# EAGLE library part EPF10K130V-BGA600 (library altera)
EPF10K130 FLEX 10K family
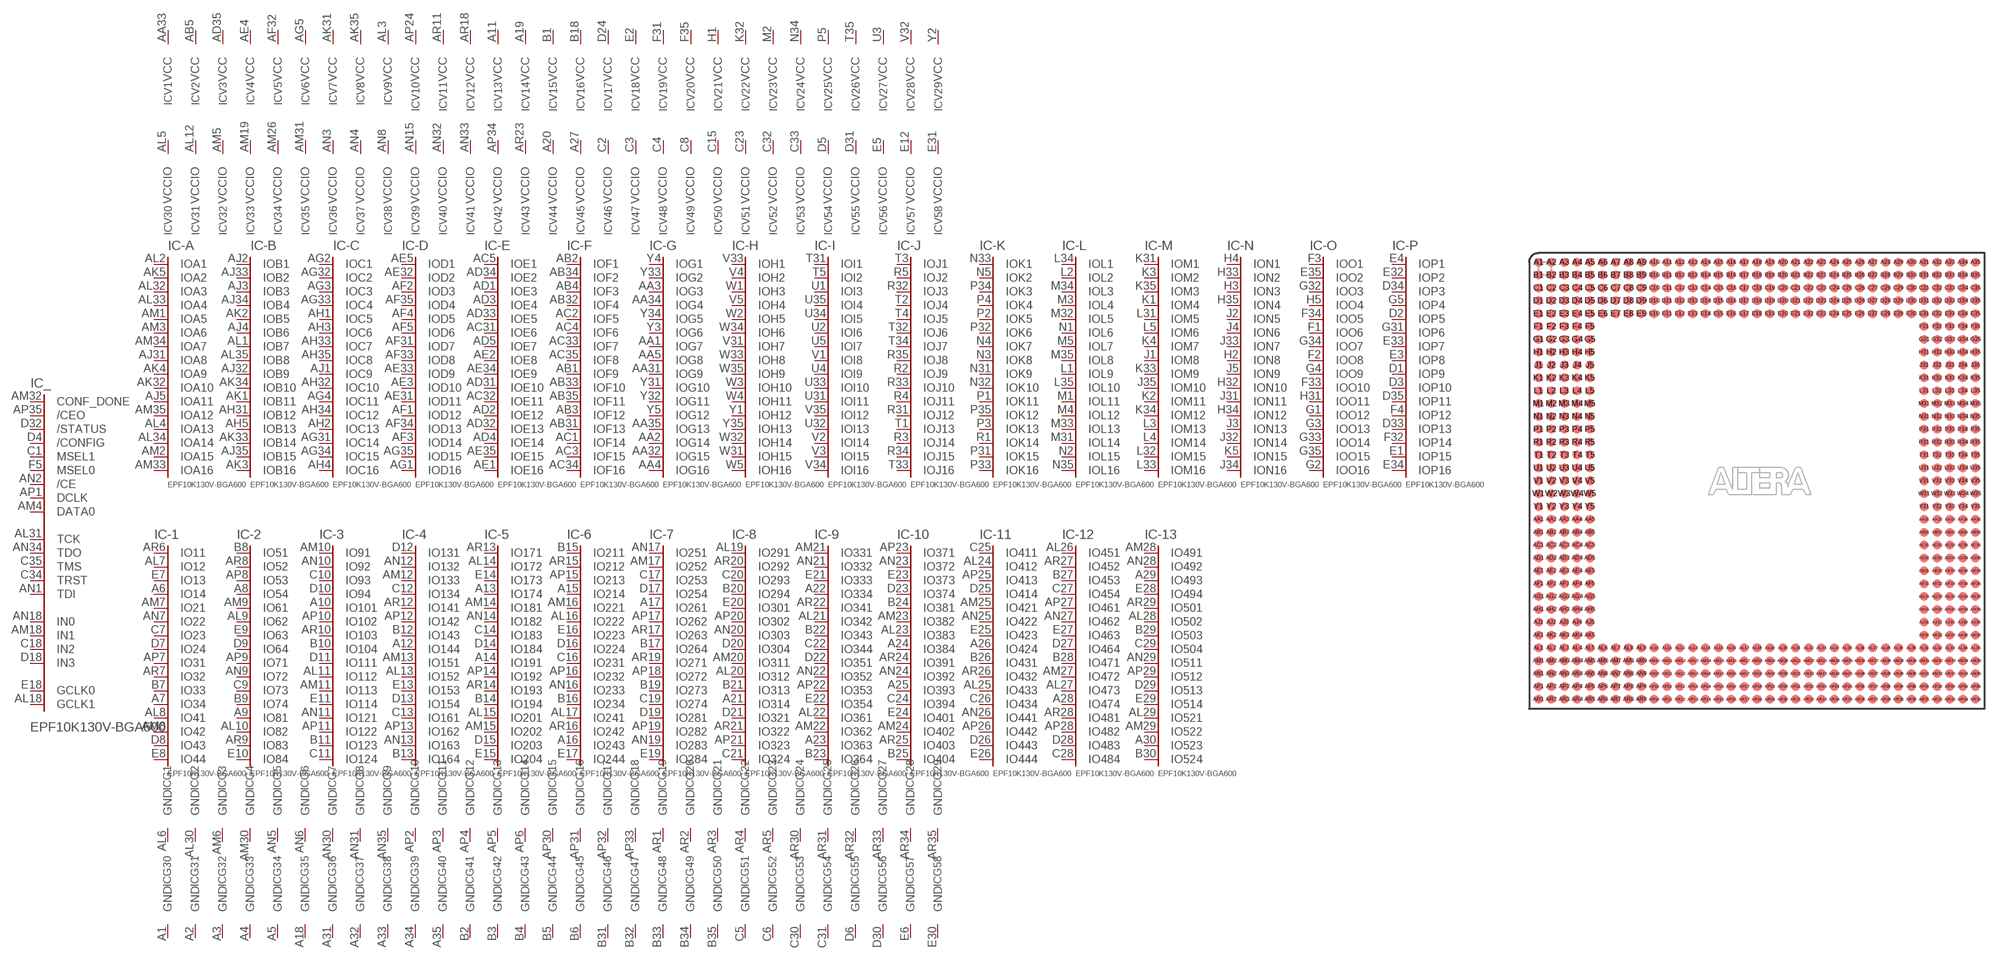
[diagram p37: symbol with the pads of BGA600; footprint BGA600]

Designator prefix IC; gates _=130V600C -A=A16 -B=B16 -C=C16 -D=D16 -E=E16 -F=F16 -G=G16 -H=H16 -I=I16 -J=J16 -K=K16 -L=L16 -M=M16 -N=N16 -O=O16 -P=P16 -1=IO44 -2=IO84 -3=IO124 -4=IO164 -5=IO204 -6=IO244 -7=IO284 -8=IO324 -9=IO364 -10=IO404 -11=IO444 -12=IO484 -13=IO524 G1=GND G2=GND G3=GND G4=GND G5=GND G6=GND G7=GND G8=GND G9=GND G10=GND G11=GND G12=GND G13=GND G14=GND G15=GND G16=GND G17=GND G18=GND G19=GND G20=GND G21=GND G22=GND G23=GND G24=GND G25=GND G26=GND G27=GND G28=GND G29=GND G30=GND G31=GND G32=GND G33=GND G34=GND G35=GND G36=GND G37=GND G38=GND G39=GND G40=GND G41=GND G42=GND G43=GND G44=GND G45=GND G46=GND G47=GND G48=GND G49=GND G50=GND G51=GND G52=GND G53=GND G54=GND G55=GND G56=GND G57=GND G58=GND V1=VCCINT V2=VCCINT V3=VCCINT V4=VCCINT V5=VCCINT V6=VCCINT V7=VCCINT V8=VCCINT V9=VCCINT V10=VCCINT V11=VCCINT V12=VCCINT V13=VCCINT V14=VCCINT V15=VCCINT V16=VCCINT V17=VCCINT V18=VCCINT V19=VCCINT V20=VCCINT V21=VCCINT V22=VCCINT V23=VCCINT V24=VCCINT V25=VCCINT V26=VCCINT V27=VCCINT V28=VCCINT V29=VCCINT V30=VCCIO V31=VCCIO V32=VCCIO V33=VCCIO V34=VCCIO V35=VCCIO V36=VCCIO V37=VCCIO V38=VCCIO V39=VCCIO V40=VCCIO V41=VCCIO V42=VCCIO V43=VCCIO V44=VCCIO V45=VCCIO V46=VCCIO V47=VCCIO V48=VCCIO V49=VCCIO V50=VCCIO V51=VCCIO V52=VCCIO V53=VCCIO V54=VCCIO V55=VCCIO V56=VCCIO V57=VCCIO V58=VCCIO

## EPF10K130V-BGA600 (OC_FARNELL: unknown; OC_NEWARK: unknown)  [BGA600]
A1  G30:GND  pwr
A2  G31:GND  pwr
A3  G32:GND  pwr
A4  G33:GND  pwr
A5  G34:GND  pwr
A6  -1:IO14
A7  -1:IO34
A8  -2:IO54
A9  -2:IO81
A10  -3:IO101
A11  V13:VCC  pwr
A12  -4:IO144
A13  -5:IO174
A14  -5:IO191
A15  -6:IO214
A16  -6:IO243
A17  -7:IO261
A18  G35:GND  pwr
A19  V14:VCC  pwr
A20  V44:VCCIO  pwr
A21  -8:IO314
A22  -9:IO334
A23  -9:IO363
A24  -10:IO384
A25  -10:IO393
A26  -11:IO424
A27  V45:VCCIO  pwr
A28  -12:IO474
A29  -13:IO493
A30  -13:IO523
A31  G36:GND  pwr
A32  G37:GND  pwr
A33  G38:GND  pwr
A34  G39:GND  pwr
A35  G40:GND  pwr
AA1  -G:IOG7
AA2  -G:IOG14
AA3  -G:IOG3
AA4  -G:IOG16
AA5  -G:IOG8
AA31  -G:IOG9
AA32  -G:IOG15
AA33  V1:VCC  pwr
AA34  -G:IOG4
AA35  -G:IOG13
AB1  -F:IOF9
AB2  -F:IOF1
AB3  -F:IOF12
AB4  -F:IOF3
AB5  V2:VCC  pwr
AB31  -F:IOF13
AB32  -F:IOF4
AB33  -F:IOF10
AB34  -F:IOF2
AB35  -F:IOF11
AC1  -F:IOF14
AC2  -F:IOF5
AC3  -F:IOF15
AC4  -F:IOF6
AC5  -E:IOE1
AC31  -E:IOE6
AC32  -E:IOE11
AC33  -F:IOF7
AC34  -F:IOF16
AC35  -F:IOF8
AD1  -E:IOE3
AD2  -E:IOE12
AD3  -E:IOE4
AD4  -E:IOE14
AD5  -E:IOE7
AD31  -E:IOE10
AD32  -E:IOE13
AD33  -E:IOE5
AD34  -E:IOE2
AD35  V3:VCC  pwr
AE1  -E:IOE16
AE2  -E:IOE8
AE3  -D:IOD10
AE4  V4:VCC  pwr
AE5  -D:IOD1
AE31  -D:IOD11
AE32  -D:IOD2
AE33  -D:IOD9
AE34  -E:IOE9
AE35  -E:IOE15
AF1  -D:IOD12
AF2  -D:IOD3
AF3  -D:IOD14
AF4  -D:IOD5
AF5  -D:IOD6
AF31  -D:IOD7
AF32  V5:VCC  pwr
AF33  -D:IOD8
AF34  -D:IOD13
AF35  -D:IOD4
AG1  -D:IOD16
AG2  -C:IOC1
AG3  -C:IOC3
AG4  -C:IOC11
AG5  V6:VCC  pwr
AG31  -C:IOC14
AG32  -C:IOC2
AG33  -C:IOC4
AG34  -C:IOC15
AG35  -D:IOD15
AH1  -C:IOC5
AH2  -C:IOC13
AH3  -C:IOC6
AH4  -C:IOC16
AH5  -B:IOB13
AH31  -B:IOB12
AH32  -C:IOC10
AH33  -C:IOC7
AH34  -C:IOC12
AH35  -C:IOC8
AJ1  -C:IOC9
AJ2  -B:IOB1
AJ3  -B:IOB3
AJ4  -B:IOB6
AJ5  -A:IOA11
AJ31  -A:IOA8
AJ32  -B:IOB9
AJ33  -B:IOB2
AJ34  -B:IOB4
AJ35  -B:IOB15
AK1  -B:IOB11
AK2  -B:IOB5
AK3  -B:IOB16
AK4  -A:IOA9
AK5  -A:IOA2
AK31  V7:VCC  pwr
AK32  -A:IOA10
AK33  -B:IOB14
AK34  -B:IOB10
AK35  V8:VCC  pwr
AL1  -B:IOB7
AL2  -A:IOA1
AL3  V9:VCC  pwr
AL4  -A:IOA13
AL5  V30:VCCIO  pwr
AL6  G1:GND  pwr
AL7  -1:IO12
AL8  -1:IO41
AL9  -2:IO62
AL10  -2:IO82
AL11  -3:IO112
AL12  V31:VCCIO  pwr
AL13  -4:IO152
AL14  -5:IO172
AL15  -5:IO201
AL16  -6:IO222
AL17  -6:IO241
AL18  _:GCLK1  in
AL19  -8:IO291
AL20  -8:IO312
AL21  -9:IO342
AL22  -9:IO361
AL23  -10:IO383
AL24  -11:IO412
AL25  -11:IO433
AL26  -12:IO451
AL27  -12:IO473
AL28  -13:IO502
AL29  -13:IO521
AL30  G2:GND  pwr
AL31  _:TCK
AL32  -A:IOA3
AL33  -A:IOA4
AL34  -A:IOA14
AL35  -B:IOB8
AM1  -A:IOA5
AM2  -A:IOA15
AM3  -A:IOA6
AM4  _:DATA0  in
AM5  V32:VCCIO  pwr
AM6  G3:GND  pwr
AM7  -1:IO21
AM8  -1:IO42
AM9  -2:IO61
AM10  -3:IO91
AM11  -3:IO113
AM12  -4:IO133
AM13  -4:IO151
AM14  -5:IO181
AM15  -5:IO202
AM16  -6:IO221
AM17  -7:IO252
AM18  _:IN1  in
AM19  V33:VCCIO  pwr
AM20  -8:IO311
AM21  -9:IO331
AM22  -9:IO362
AM23  -10:IO382
AM24  -10:IO402
AM25  -11:IO421
AM26  V34:VCCIO  pwr
AM27  -12:IO472
AM28  -13:IO491
AM29  -13:IO522
AM30  G4:GND  pwr
AM31  V35:VCCIO  pwr
AM32  _:CONF_DONE  in
AM33  -A:IOA16
AM34  -A:IOA7
AM35  -A:IOA12
AN1  _:TDI
AN2  _:/CE  in
AN3  V36:VCCIO  pwr
AN4  V37:VCCIO  pwr
AN5  G5:GND  pwr
AN6  G6:GND  pwr
AN7  -1:IO22
AN8  V38:VCCIO  pwr
AN9  -2:IO72
AN10  -3:IO92
AN11  -3:IO121
AN12  -4:IO132
AN13  -4:IO163
AN14  -5:IO182
AN15  V39:VCCIO  pwr
AN16  -6:IO233
AN17  -7:IO251
AN18  _:IN0  in
AN19  -7:IO283
AN20  -8:IO303
AN21  -9:IO332
AN22  -9:IO352
AN23  -10:IO372
AN24  -10:IO392
AN25  -11:IO422
AN26  -11:IO441
AN27  -12:IO462
AN28  -13:IO492
AN29  -13:IO511
AN30  G7:GND  pwr
AN31  G8:GND  pwr
AN32  V40:VCCIO  pwr
AN33  V41:VCCIO  pwr
AN34  _:TDO
AN35  G9:GND  pwr
AP1  _:DCLK  in
AP2  G10:GND  pwr
AP3  G11:GND  pwr
AP4  G12:GND  pwr
AP5  G13:GND  pwr
AP6  G14:GND  pwr
AP7  -1:IO31
AP8  -2:IO53
AP9  -2:IO71
AP10  -3:IO102
AP11  -3:IO122
AP12  -4:IO142
AP13  -4:IO162
AP14  -5:IO192
AP15  -6:IO213
AP16  -6:IO232
AP17  -7:IO262
AP18  -7:IO272
AP19  -7:IO282
AP20  -8:IO302
AP21  -8:IO323
AP22  -9:IO353
AP23  -10:IO371
AP24  V10:VCC  pwr
AP25  -11:IO413
AP26  -11:IO442
AP27  -12:IO461
AP28  -12:IO482
AP29  -13:IO512
AP30  G15:GND  pwr
AP31  G16:GND  pwr
AP32  G17:GND  pwr
AP33  G18:GND  pwr
AP34  V42:VCCIO  pwr
AP35  _:/CEO  in
AR1  G19:GND  pwr
AR2  G20:GND  pwr
AR3  G21:GND  pwr
AR4  G22:GND  pwr
AR5  G23:GND  pwr
AR6  -1:IO11
AR7  -1:IO32
AR8  -2:IO52
AR9  -2:IO83
AR10  -3:IO103
AR11  V11:VCC  pwr
AR12  -4:IO141
AR13  -5:IO171
AR14  -5:IO193
AR15  -6:IO212
AR16  -6:IO242
AR17  -7:IO263
AR18  V12:VCC  pwr
AR19  -7:IO271
AR20  -8:IO292
AR21  -8:IO322
AR22  -9:IO341
AR23  V43:VCCIO  pwr
AR24  -10:IO391
AR25  -10:IO403
AR26  -11:IO432
AR27  -12:IO452
AR28  -12:IO481
AR29  -13:IO501
AR30  G24:GND  pwr
AR31  G25:GND  pwr
AR32  G26:GND  pwr
AR33  G27:GND  pwr
AR34  G28:GND  pwr
AR35  G29:GND  pwr
B1  V15:VCC  pwr
B2  G41:GND  pwr
B3  G42:GND  pwr
B4  G43:GND  pwr
B5  G44:GND  pwr
B6  G45:GND  pwr
B7  -1:IO33
B8  -2:IO51
B9  -2:IO74
B10  -3:IO104
B11  -3:IO123
B12  -4:IO143
B13  -4:IO164
B14  -5:IO194
B15  -6:IO211
B16  -6:IO234
B17  -7:IO264
B18  V16:VCC  pwr
B19  -7:IO273
B20  -8:IO294
B21  -8:IO313
B22  -9:IO343
B23  -9:IO364
B24  -10:IO381
B25  -10:IO404
B26  -11:IO431
B27  -12:IO453
B28  -12:IO471
B29  -13:IO503
B30  -13:IO524
B31  G46:GND  pwr
B32  G47:GND  pwr
B33  G48:GND  pwr
B34  G49:GND  pwr
B35  G50:GND  pwr
C1  _:MSEL1  in
C2  V46:VCCIO  pwr
C3  V47:VCCIO  pwr
C4  V48:VCCIO  pwr
C5  G51:GND  pwr
C6  G52:GND  pwr
C7  -1:IO23
C8  V49:VCCIO  pwr
C9  -2:IO73
C10  -3:IO93
C11  -3:IO124
C12  -4:IO134
C13  -4:IO161
C14  -5:IO183
C15  V50:VCCIO  pwr
C16  -6:IO231
C17  -7:IO253
C18  _:IN2  in
C19  -7:IO274
C20  -8:IO293
C21  -8:IO324
C22  -9:IO344
C23  V51:VCCIO  pwr
C24  -10:IO394
C25  -11:IO411
C26  -11:IO434
C27  -12:IO454
C28  -12:IO484
C29  -13:IO504
C30  G53:GND  pwr
C31  G54:GND  pwr
C32  V52:VCCIO  pwr
C33  V53:VCCIO  pwr
C34  _:TRST
C35  _:TMS
D1  -P:IOP9
D2  -P:IOP5
D3  -P:IOP10
D4  _:/CONFIG  in
D5  V54:VCCIO  pwr
D6  G55:GND  pwr
D7  -1:IO24
D8  -1:IO43
D9  -2:IO64
D10  -3:IO94
D11  -3:IO111
D12  -4:IO131
D13  -4:IO154
D14  -5:IO184
D15  -5:IO203
D16  -6:IO224
D17  -7:IO254
D18  _:IN3  in
D19  -7:IO281
D20  -8:IO304
D21  -8:IO321
D22  -9:IO351
D23  -10:IO374
D24  V17:VCC  pwr
D25  -11:IO414
D26  -11:IO443
D27  -12:IO464
D28  -12:IO483
D29  -13:IO513
D30  G56:GND  pwr
D31  V55:VCCIO  pwr
D32  _:/STATUS  in
D33  -P:IOP13
D34  -P:IOP3
D35  -P:IOP11
E1  -P:IOP15
E2  V18:VCC  pwr
E3  -P:IOP8
E4  -P:IOP1
E5  V56:VCCIO  pwr
E6  G57:GND  pwr
E7  -1:IO13
E8  -1:IO44
E9  -2:IO63
E10  -2:IO84
E11  -3:IO114
E12  V57:VCCIO  pwr
E13  -4:IO153
E14  -5:IO173
E15  -5:IO204
E16  -6:IO223
E17  -6:IO244
E18  _:GCLK0  in
E19  -7:IO284
E20  -8:IO301
E21  -9:IO333
E22  -9:IO354
E23  -10:IO373
E24  -10:IO401
E25  -11:IO423
E26  -11:IO444
E27  -12:IO463
E28  -13:IO494
E29  -13:IO514
E30  G58:GND  pwr
E31  V58:VCCIO  pwr
E32  -P:IOP2
E33  -P:IOP7
E34  -P:IOP16
E35  -O:IOO2
F1  -O:IOO6
F2  -O:IOO8
F3  -O:IOO1
F4  -P:IOP12
F5  _:MSEL0  in
F31  V19:VCC  pwr
F32  -P:IOP14
F33  -O:IOO10
F34  -O:IOO5
F35  V20:VCC  pwr
G1  -O:IOO12
G2  -O:IOO16
G3  -O:IOO13
G4  -O:IOO9
G5  -P:IOP4
G31  -P:IOP6
G32  -O:IOO3
G33  -O:IOO14
G34  -O:IOO7
G35  -O:IOO15
H1  V21:VCC  pwr
H2  -N:ION8
H3  -N:ION3
H4  -N:ION1
H5  -O:IOO4
H31  -O:IOO11
H32  -N:ION10
H33  -N:ION2
H34  -N:ION12
H35  -N:ION4
J1  -M:IOM8
J2  -N:ION5
J3  -N:ION13
J4  -N:ION6
J5  -N:ION9
J31  -N:ION11
J32  -N:ION14
J33  -N:ION7
J34  -N:ION16
J35  -M:IOM10
K1  -M:IOM4
K2  -M:IOM11
K3  -M:IOM2
K4  -M:IOM7
K5  -N:ION15
K31  -M:IOM1
K32  V22:VCC  pwr
K33  -M:IOM9
K34  -M:IOM12
K35  -M:IOM3
L1  -L:IOL9
L2  -L:IOL2
L3  -M:IOM13
L4  -M:IOM14
L5  -M:IOM6
L31  -M:IOM5
L32  -M:IOM15
L33  -M:IOM16
L34  -L:IOL1
L35  -L:IOL10
M1  -L:IOL11
M2  V23:VCC  pwr
M3  -L:IOL4
M4  -L:IOL12
M5  -L:IOL7
M31  -L:IOL14
M32  -L:IOL5
M33  -L:IOL13
M34  -L:IOL3
M35  -L:IOL8
N1  -L:IOL6
N2  -L:IOL15
N3  -K:IOK8
N4  -K:IOK7
N5  -K:IOK2
N31  -K:IOK9
N32  -K:IOK10
N33  -K:IOK1
N34  V24:VCC  pwr
N35  -L:IOL16
P1  -K:IOK11
P2  -K:IOK5
P3  -K:IOK13
P4  -K:IOK4
P5  V25:VCC  pwr
P31  -K:IOK15
P32  -K:IOK6
P33  -K:IOK16
P34  -K:IOK3
P35  -K:IOK12
R1  -K:IOK14
R2  -J:IOJ9
R3  -J:IOJ14
R4  -J:IOJ11
R5  -J:IOJ2
R31  -J:IOJ12
R32  -J:IOJ3
R33  -J:IOJ10
R34  -J:IOJ15
R35  -J:IOJ8
T1  -J:IOJ13
T2  -J:IOJ4
T3  -J:IOJ1
T4  -J:IOJ5
T5  -I:IOI2
T31  -I:IOI1
T32  -J:IOJ6
T33  -J:IOJ16
T34  -J:IOJ7
T35  V26:VCC  pwr
U1  -I:IOI3
U2  -I:IOI6
U3  V27:VCC  pwr
U4  -I:IOI9
U5  -I:IOI7
U31  -I:IOI11
U32  -I:IOI13
U33  -I:IOI10
U34  -I:IOI5
U35  -I:IOI4
V1  -I:IOI8
V2  -I:IOI14
V3  -I:IOI15
V4  -H:IOH2
V5  -H:IOH4
V31  -H:IOH7
V32  V28:VCC  pwr
V33  -H:IOH1
V34  -I:IOI16
V35  -I:IOI12
W1  -H:IOH3
W2  -H:IOH5
W3  -H:IOH10
W4  -H:IOH11
W5  -H:IOH16
W31  -H:IOH15
W32  -H:IOH14
W33  -H:IOH8
W34  -H:IOH6
W35  -H:IOH9
Y1  -H:IOH12
Y2  V29:VCC  pwr
Y3  -G:IOG6
Y4  -G:IOG1
Y5  -G:IOG12
Y31  -G:IOG10
Y32  -G:IOG11
Y33  -G:IOG2
Y34  -G:IOG5
Y35  -H:IOH13

## Footprint BGA600 (pad centres in mm)
Ball Grid Array
smd 0.9 x 0.9: A1 -21.59,21.59; A2 -20.32,21.59; A3 -19.05,21.59; A4 -17.78,21.59; A5 -16.51,21.59; A6 -15.24,21.59; A7 -13.97,21.59; A8 -12.7,21.59; A9 -11.43,21.59; A10 -10.16,21.59; A11 -8.89,21.59; A12 -7.62,21.59; A13 -6.35,21.59; A14 -5.08,21.59; A15 -3.81,21.59; A16 -2.54,21.59; A17 -1.27,21.59; A18 0,21.59; A19 1.27,21.59; A20 2.54,21.59; A21 3.81,21.59; A22 5.08,21.59; A23 6.35,21.59; A24 7.62,21.59; A25 8.89,21.59; A26 10.16,21.59; A27 11.43,21.59; A28 12.7,21.59; A29 13.97,21.59; A30 15.24,21.59; A31 16.51,21.59; A32 17.78,21.59; A33 19.05,21.59; A34 20.32,21.59; A35 21.59,21.59; AA1 -21.59,-3.81; AA2 -20.32,-3.81; AA3 -19.05,-3.81; AA4 -17.78,-3.81; AA5 -16.51,-3.81; AA31 16.51,-3.81; AA32 17.78,-3.81; AA33 19.05,-3.81; AA34 20.32,-3.81; AA35 21.59,-3.81; AB1 -21.59,-5.08; AB2 -20.32,-5.08; AB3 -19.05,-5.08; AB4 -17.78,-5.08; AB5 -16.51,-5.08; AB31 16.51,-5.08; AB32 17.78,-5.08; AB33 19.05,-5.08; AB34 20.32,-5.08; AB35 21.59,-5.08; AC1 -21.59,-6.35; AC2 -20.32,-6.35; AC3 -19.05,-6.35; AC4 -17.78,-6.35; AC5 -16.51,-6.35; AC31 16.51,-6.35; AC32 17.78,-6.35; AC33 19.05,-6.35; AC34 20.32,-6.35; AC35 21.59,-6.35; AD1 -21.59,-7.62; AD2 -20.32,-7.62; AD3 -19.05,-7.62; AD4 -17.78,-7.62; AD5 -16.51,-7.62; AD31 16.51,-7.62; AD32 17.78,-7.62; AD33 19.05,-7.62; AD34 20.32,-7.62; AD35 21.59,-7.62; AE1 -21.59,-8.89; AE2 -20.32,-8.89; AE3 -19.05,-8.89; AE4 -17.78,-8.89; AE5 -16.51,-8.89; AE31 16.51,-8.89; AE32 17.78,-8.89; AE33 19.05,-8.89; AE34 20.32,-8.89; AE35 21.59,-8.89; AF1 -21.59,-10.16; AF2 -20.32,-10.16; AF3 -19.05,-10.16; AF4 -17.78,-10.16; AF5 -16.51,-10.16; AF31 16.51,-10.16; AF32 17.78,-10.16; AF33 19.05,-10.16; AF34 20.32,-10.16; AF35 21.59,-10.16; AG1 -21.59,-11.43; AG2 -20.32,-11.43; AG3 -19.05,-11.43; AG4 -17.78,-11.43; AG5 -16.51,-11.43; AG31 16.51,-11.43; AG32 17.78,-11.43; AG33 19.05,-11.43; AG34 20.32,-11.43; AG35 21.59,-11.43; AH1 -21.59,-12.7; AH2 -20.32,-12.7; AH3 -19.05,-12.7; AH4 -17.78,-12.7; AH5 -16.51,-12.7; AH31 16.51,-12.7; AH32 17.78,-12.7; AH33 19.05,-12.7; AH34 20.32,-12.7; AH35 21.59,-12.7; AJ1 -21.59,-13.97; AJ2 -20.32,-13.97; AJ3 -19.05,-13.97; AJ4 -17.78,-13.97; AJ5 -16.51,-13.97; AJ31 16.51,-13.97; AJ32 17.78,-13.97; AJ33 19.05,-13.97; AJ34 20.32,-13.97; AJ35 21.59,-13.97; AK1 -21.59,-15.24; AK2 -20.32,-15.24; AK3 -19.05,-15.24; AK4 -17.78,-15.24; AK5 -16.51,-15.24; AK31 16.51,-15.24; AK32 17.78,-15.24; AK33 19.05,-15.24; AK34 20.32,-15.24; AK35 21.59,-15.24; AL1 -21.59,-16.51; AL2 -20.32,-16.51; AL3 -19.05,-16.51; AL4 -17.78,-16.51; AL5 -16.51,-16.51; AL6 -15.24,-16.51; AL7 -13.97,-16.51; AL8 -12.7,-16.51; AL9 -11.43,-16.51; AL10 -10.16,-16.51; AL11 -8.89,-16.51; AL12 -7.62,-16.51; AL13 -6.35,-16.51; AL14 -5.08,-16.51; AL15 -3.81,-16.51; AL16 -2.54,-16.51; AL17 -1.27,-16.51; AL18 0,-16.51; AL19 1.27,-16.51; AL20 2.54,-16.51; AL21 3.81,-16.51; AL22 5.08,-16.51; AL23 6.35,-16.51; AL24 7.62,-16.51; AL25 8.89,-16.51; AL26 10.16,-16.51; AL27 11.43,-16.51; AL28 12.7,-16.51; AL29 13.97,-16.51; AL30 15.24,-16.51; AL31 16.51,-16.51; AL32 17.78,-16.51; AL33 19.05,-16.51; AL34 20.32,-16.51; AL35 21.59,-16.51; AM1 -21.59,-17.78; AM2 -20.32,-17.78; AM3 -19.05,-17.78; AM4 -17.78,-17.78; AM5 -16.51,-17.78; AM6 -15.24,-17.78; AM7 -13.97,-17.78; AM8 -12.7,-17.78; AM9 -11.43,-17.78; AM10 -10.16,-17.78; AM11 -8.89,-17.78; AM12 -7.62,-17.78; AM13 -6.35,-17.78; AM14 -5.08,-17.78; AM15 -3.81,-17.78; AM16 -2.54,-17.78; AM17 -1.27,-17.78; AM18 0,-17.78; AM19 1.27,-17.78; AM20 2.54,-17.78; AM21 3.81,-17.78; AM22 5.08,-17.78; AM23 6.35,-17.78; AM24 7.62,-17.78; AM25 8.89,-17.78; AM26 10.16,-17.78; AM27 11.43,-17.78; AM28 12.7,-17.78; AM29 13.97,-17.78; AM30 15.24,-17.78; AM31 16.51,-17.78; AM32 17.78,-17.78; AM33 19.05,-17.78; AM34 20.32,-17.78; AM35 21.59,-17.78; AN1 -21.59,-19.05; AN2 -20.32,-19.05; AN3 -19.05,-19.05; AN4 -17.78,-19.05; AN5 -16.51,-19.05; AN6 -15.24,-19.05; AN7 -13.97,-19.05; AN8 -12.7,-19.05; AN9 -11.43,-19.05; AN10 -10.16,-19.05; AN11 -8.89,-19.05; AN12 -7.62,-19.05; AN13 -6.35,-19.05; AN14 -5.08,-19.05; AN15 -3.81,-19.05; AN16 -2.54,-19.05; AN17 -1.27,-19.05; AN18 0,-19.05; AN19 1.27,-19.05; AN20 2.54,-19.05; AN21 3.81,-19.05; AN22 5.08,-19.05; AN23 6.35,-19.05; AN24 7.62,-19.05; AN25 8.89,-19.05; AN26 10.16,-19.05; AN27 11.43,-19.05; AN28 12.7,-19.05; AN29 13.97,-19.05; AN30 15.24,-19.05; AN31 16.51,-19.05; AN32 17.78,-19.05; AN33 19.05,-19.05; AN34 20.32,-19.05; AN35 21.59,-19.05; AP1 -21.59,-20.32; AP2 -20.32,-20.32; AP3 -19.05,-20.32; AP4 -17.78,-20.32; AP5 -16.51,-20.32; AP6 -15.24,-20.32; AP7 -13.97,-20.32; AP8 -12.7,-20.32; AP9 -11.43,-20.32; AP10 -10.16,-20.32; AP11 -8.89,-20.32; AP12 -7.62,-20.32; AP13 -6.35,-20.32; AP14 -5.08,-20.32; AP15 -3.81,-20.32; AP16 -2.54,-20.32; AP17 -1.27,-20.32; AP18 0,-20.32; AP19 1.27,-20.32; AP20 2.54,-20.32; AP21 3.81,-20.32; AP22 5.08,-20.32; AP23 6.35,-20.32; AP24 7.62,-20.32; AP25 8.89,-20.32; AP26 10.16,-20.32; AP27 11.43,-20.32; AP28 12.7,-20.32; AP29 13.97,-20.32; AP30 15.24,-20.32; AP31 16.51,-20.32; AP32 17.78,-20.32; AP33 19.05,-20.32; AP34 20.32,-20.32; AP35 21.59,-20.32; AR1 -21.59,-21.59; AR2 -20.32,-21.59; AR3 -19.05,-21.59; AR4 -17.78,-21.59; AR5 -16.51,-21.59; AR6 -15.24,-21.59; AR7 -13.97,-21.59; AR8 -12.7,-21.59; AR9 -11.43,-21.59; AR10 -10.16,-21.59; AR11 -8.89,-21.59; AR12 -7.62,-21.59; AR13 -6.35,-21.59; AR14 -5.08,-21.59; AR15 -3.81,-21.59; AR16 -2.54,-21.59; AR17 -1.27,-21.59; AR18 0,-21.59; AR19 1.27,-21.59; AR20 2.54,-21.59; AR21 3.81,-21.59; AR22 5.08,-21.59; AR23 6.35,-21.59; AR24 7.62,-21.59; AR25 8.89,-21.59; AR26 10.16,-21.59; AR27 11.43,-21.59; AR28 12.7,-21.59; AR29 13.97,-21.59; AR30 15.24,-21.59; AR31 16.51,-21.59; AR32 17.78,-21.59; AR33 19.05,-21.59; AR34 20.32,-21.59; AR35 21.59,-21.59; B1 -21.59,20.32; B2 -20.32,20.32; B3 -19.05,20.32; B4 -17.78,20.32; B5 -16.51,20.32; B6 -15.24,20.32; B7 -13.97,20.32; B8 -12.7,20.32; B9 -11.43,20.32; B10 -10.16,20.32; B11 -8.89,20.32; B12 -7.62,20.32; B13 -6.35,20.32; B14 -5.08,20.32; B15 -3.81,20.32; B16 -2.54,20.32; B17 -1.27,20.32; B18 0,20.32; B19 1.27,20.32; B20 2.54,20.32; B21 3.81,20.32; B22 5.08,20.32; B23 6.35,20.32; B24 7.62,20.32; B25 8.89,20.32; B26 10.16,20.32; B27 11.43,20.32; B28 12.7,20.32; B29 13.97,20.32; B30 15.24,20.32; B31 16.51,20.32; B32 17.78,20.32; B33 19.05,20.32; B34 20.32,20.32; B35 21.59,20.32; C1 -21.59,19.05; C2 -20.32,19.05; C3 -19.05,19.05; C4 -17.78,19.05; C5 -16.51,19.05; C6 -15.24,19.05; C7 -13.97,19.05; C8 -12.7,19.05; C9 -11.43,19.05; C10 -10.16,19.05; C11 -8.89,19.05; C12 -7.62,19.05; C13 -6.35,19.05; C14 -5.08,19.05; C15 -3.81,19.05; C16 -2.54,19.05; C17 -1.27,19.05; C18 0,19.05; C19 1.27,19.05; C20 2.54,19.05; C21 3.81,19.05; C22 5.08,19.05; C23 6.35,19.05; C24 7.62,19.05; C25 8.89,19.05; C26 10.16,19.05; C27 11.43,19.05; C28 12.7,19.05; C29 13.97,19.05; C30 15.24,19.05; C31 16.51,19.05; C32 17.78,19.05; C33 19.05,19.05; C34 20.32,19.05; C35 21.59,19.05; D1 -21.59,17.78; D2 -20.32,17.78; D3 -19.05,17.78; D4 -17.78,17.78; D5 -16.51,17.78; D6 -15.24,17.78; D7 -13.97,17.78; D8 -12.7,17.78; D9 -11.43,17.78; D10 -10.16,17.78; D11 -8.89,17.78; D12 -7.62,17.78; D13 -6.35,17.78; D14 -5.08,17.78; D15 -3.81,17.78; D16 -2.54,17.78; D17 -1.27,17.78; D18 0,17.78; D19 1.27,17.78; D20 2.54,17.78; D21 3.81,17.78; D22 5.08,17.78; D23 6.35,17.78; D24 7.62,17.78; D25 8.89,17.78; D26 10.16,17.78; D27 11.43,17.78; D28 12.7,17.78; D29 13.97,17.78; D30 15.24,17.78; D31 16.51,17.78; D32 17.78,17.78; D33 19.05,17.78; D34 20.32,17.78; D35 21.59,17.78; E1 -21.59,16.51; E2 -20.32,16.51; E3 -19.05,16.51; E4 -17.78,16.51; E5 -16.51,16.51; E6 -15.24,16.51; E7 -13.97,16.51; E8 -12.7,16.51; E9 -11.43,16.51; E10 -10.16,16.51; E11 -8.89,16.51; E12 -7.62,16.51; E13 -6.35,16.51; E14 -5.08,16.51; E15 -3.81,16.51; E16 -2.54,16.51; E17 -1.27,16.51; E18 0,16.51; E19 1.27,16.51; E20 2.54,16.51; E21 3.81,16.51; E22 5.08,16.51; E23 6.35,16.51; E24 7.62,16.51; E25 8.89,16.51; E26 10.16,16.51; E27 11.43,16.51; E28 12.7,16.51; E29 13.97,16.51; E30 15.24,16.51; E31 16.51,16.51; E32 17.78,16.51; E33 19.05,16.51; E34 20.32,16.51; E35 21.59,16.51; F1 -21.59,15.24; F2 -20.32,15.24; F3 -19.05,15.24; F4 -17.78,15.24; F5 -16.51,15.24; F31 16.51,15.24; F32 17.78,15.24; F33 19.05,15.24; F34 20.32,15.24; F35 21.59,15.24; G1 -21.59,13.97; G2 -20.32,13.97; G3 -19.05,13.97; G4 -17.78,13.97; G5 -16.51,13.97; G31 16.51,13.97; G32 17.78,13.97; G33 19.05,13.97; G34 20.32,13.97; G35 21.59,13.97; H1 -21.59,12.7; H2 -20.32,12.7; H3 -19.05,12.7; H4 -17.78,12.7; H5 -16.51,12.7; H31 16.51,12.7; H32 17.78,12.7; H33 19.05,12.7; H34 20.32,12.7; H35 21.59,12.7; J1 -21.59,11.43; J2 -20.32,11.43; J3 -19.05,11.43; J4 -17.78,11.43; J5 -16.51,11.43; J31 16.51,11.43; J32 17.78,11.43; J33 19.05,11.43; J34 20.32,11.43; J35 21.59,11.43; K1 -21.59,10.16; K2 -20.32,10.16; K3 -19.05,10.16; K4 -17.78,10.16; K5 -16.51,10.16; K31 16.51,10.16; K32 17.78,10.16; K33 19.05,10.16; K34 20.32,10.16; K35 21.59,10.16; L1 -21.59,8.89; L2 -20.32,8.89; L3 -19.05,8.89; L4 -17.78,8.89; L5 -16.51,8.89; L31 16.51,8.89; L32 17.78,8.89; L33 19.05,8.89; L34 20.32,8.89; L35 21.59,8.89; M1 -21.59,7.62; M2 -20.32,7.62; M3 -19.05,7.62; M4 -17.78,7.62; M5 -16.51,7.62; M31 16.51,7.62; M32 17.78,7.62; M33 19.05,7.62; M34 20.32,7.62; M35 21.59,7.62; N1 -21.59,6.35; N2 -20.32,6.35; N3 -19.05,6.35; N4 -17.78,6.35; N5 -16.51,6.35; N31 16.51,6.35; N32 17.78,6.35; N33 19.05,6.35; N34 20.32,6.35; N35 21.59,6.35; P1 -21.59,5.08; P2 -20.32,5.08; P3 -19.05,5.08; P4 -17.78,5.08; P5 -16.51,5.08; P31 16.51,5.08; P32 17.78,5.08; P33 19.05,5.08; P34 20.32,5.08; P35 21.59,5.08; R1 -21.59,3.81; R2 -20.32,3.81; R3 -19.05,3.81; R4 -17.78,3.81; R5 -16.51,3.81; R31 16.51,3.81; R32 17.78,3.81; R33 19.05,3.81; R34 20.32,3.81; R35 21.59,3.81; T1 -21.59,2.54; T2 -20.32,2.54; T3 -19.05,2.54; T4 -17.78,2.54; T5 -16.51,2.54; T31 16.51,2.54; T32 17.78,2.54; T33 19.05,2.54; T34 20.32,2.54; T35 21.59,2.54; U1 -21.59,1.27; U2 -20.32,1.27; U3 -19.05,1.27; U4 -17.78,1.27; U5 -16.51,1.27; U31 16.51,1.27; U32 17.78,1.27; U33 19.05,1.27; U34 20.32,1.27; U35 21.59,1.27; V1 -21.59,0; V2 -20.32,0; V3 -19.05,0; V4 -17.78,0; V5 -16.51,0; V31 16.51,0; V32 17.78,0; V33 19.05,0; V34 20.32,0; V35 21.59,0; W1 -21.59,-1.27; W2 -20.32,-1.27; W3 -19.05,-1.27; W4 -17.78,-1.27; W5 -16.51,-1.27; W31 16.51,-1.27; W32 17.78,-1.27; W33 19.05,-1.27; W34 20.32,-1.27; W35 21.59,-1.27; Y1 -21.59,-2.54; Y2 -20.32,-2.54; Y3 -19.05,-2.54; Y4 -17.78,-2.54; Y5 -16.51,-2.54; Y31 16.51,-2.54; Y32 17.78,-2.54; Y33 19.05,-2.54; Y34 20.32,-2.54; Y35 21.59,-2.54